# Altium footprint library CN_FCI_73725_USB-A.PcbLib: 1 footprints
Each footprint in its own frame and in the unit in brackets; x right, y up, seen from the top. Pads: shape width x height; smd on the part's side, far side on the other; paste and mask are expansions set on the pad; w line width, h text height; cw(c..) or ccw(c..) is an arc to the next point about the centre after c.
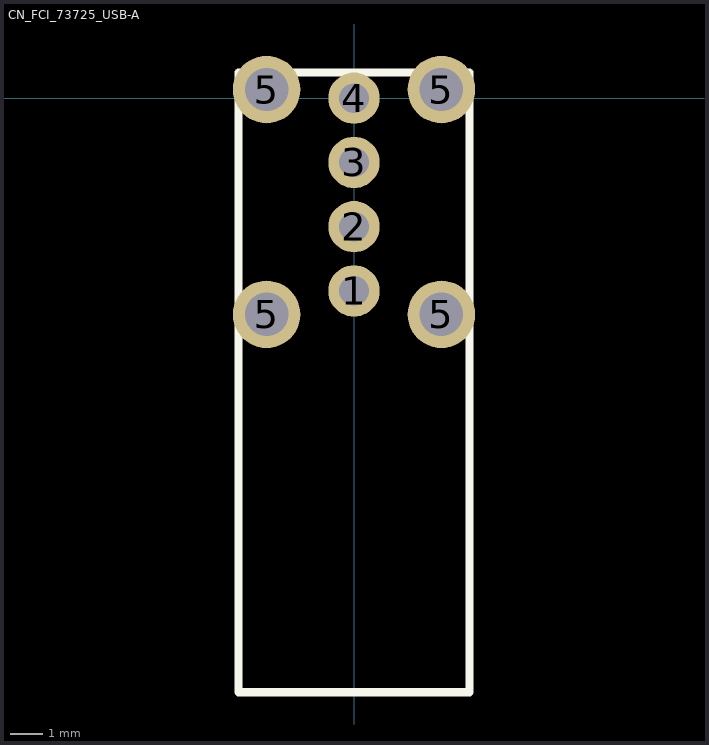
[diagram p0: the footprint, top view; thin cyan lines are the x and y axes]

## CN_FCI_73725_USB-A [mm] "FCI upright USB-A connector"
pads (8):
  round 1.6 hole 0.92: 1(0,-6) 2(0,-4) 3(0,-2) 4(0,0)
  round 2.1 hole 1.35: 5(-2.72,-6.73) 5(-2.72,0.27) 5(2.72,-6.73) 5(2.72,0.27)
Top Overlay:
  lines w0.254: -3.6,-18.49 3.6,-18.49 3.6,0.8 -3.6,0.8 -3.6,-13.5 -3.6,-18.49
3D body: height 14.61, standoff -3.68, extent -3.7,-18.45 3.5,0.8